# Altium schematic symbol library EasyPCB.SchLib: 70 symbols
Pins are listed as number, name and electrical type; pins without a type are passive.

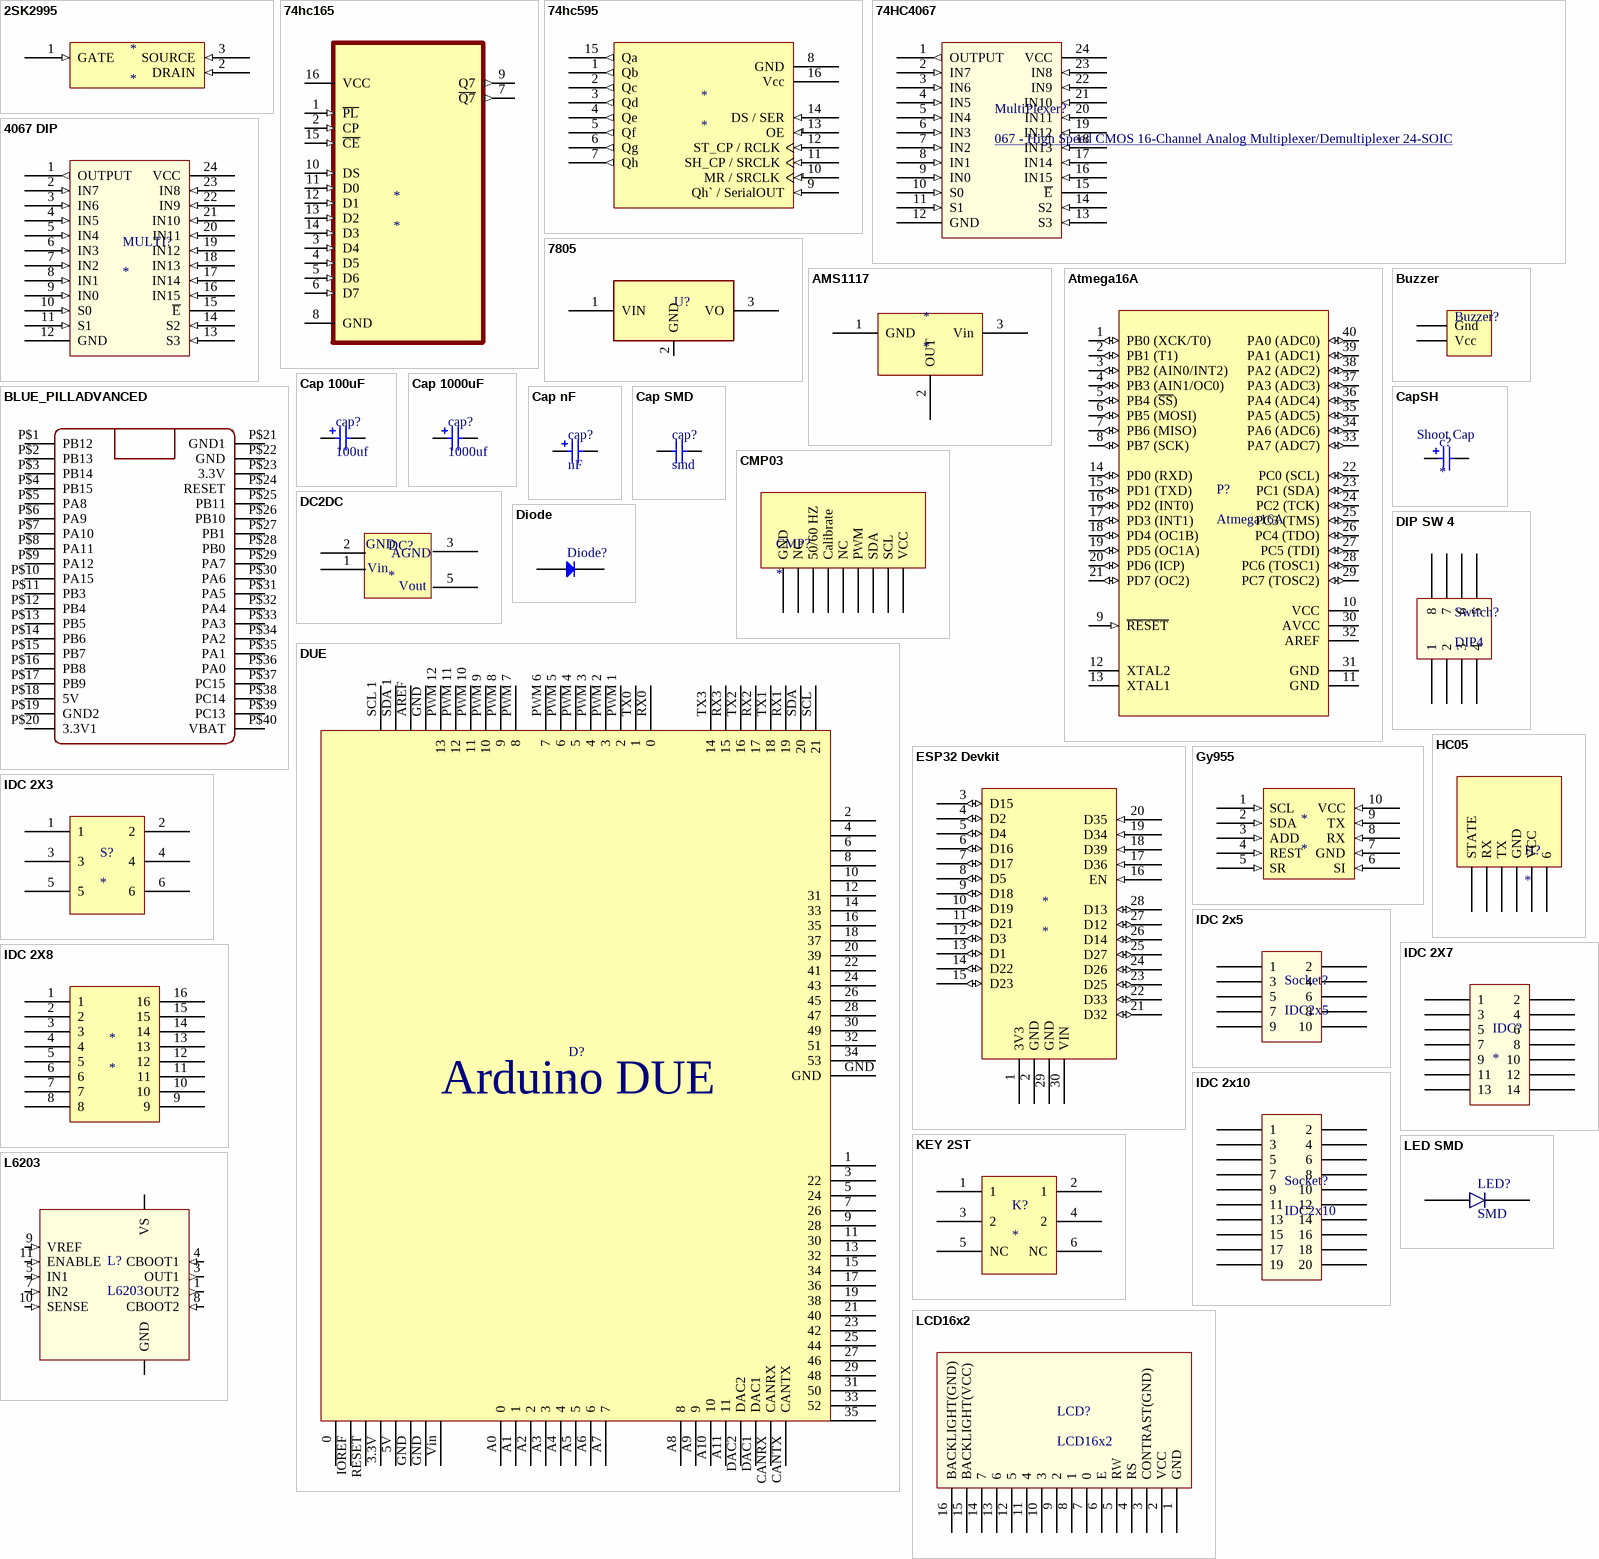
[diagram p0: symbols 2SK2995 to LED SMD]

## 2SK2995
designator *
footprint 3 PIn - 5.25
pins: 1 GATE (in), 2 DRAIN (in), 3 SOURCE (in)

## 74hc165
designator *
footprint pdip16
footprint SOT109
pins: 1 ~{PL} (in), 2 CP (in), 3 D4 (in), 4 D5 (in), 5 D6 (in), 6 D7 (in), 7 ~{Q7} (out), 8 GND, 9 Q7 (out), 10 DS (in), 11 D0 (in), 12 D1 (in), 13 D2 (in), 14 D3 (in), 15 ~{CE} (in), 16 VCC (power)

## 74hc595
designator *
footprint pdip16
footprint SOT109
pins: 1 Qb (out), 2 Qc (out), 3 Qd (out), 4 Qe (out), 5 Qf (out), 6 Qg (out), 7 Qh (out), 8 GND (power), 9 Qh` / SerialOUT (in) "Serial Out", 10 MR / SRCLK (in) "Master Reclear, active low", 11 SH_CP / SRCLK (in) "Shift register clock pin", 12 ST_CP / RCLK (in) "Storage register clock pin (latch pin)", 13 OE (in) "Output enable, active low", 14 DS / SER (in) "Serial data input", 15 Qa (out), 16 Vcc (power)

## 74HC4067
designator MultiPlexer?, comment 067 - High Speed CMOS 16-Channel Analog Multiplexer/Demultiplexer 24-SOIC
By: @JavadRah; Publisher: Prim.ir
footprint SOIC24 (24-SOIC)
pins: 1 OUTPUT (out), 2 IN7 (in), 3 IN6 (in), 4 IN5 (in), 5 IN4 (in), 6 IN3 (in), 7 IN2 (in), 8 IN1 (in), 9 IN0 (in), 10 S0 (in), 11 S1 (in), 12 GND (power), 13 S3 (in), 14 S2 (in), 15 ~{E}, 16 IN15 (in), 17 IN14 (in), 18 IN13 (in), 19 IN12 (in), 20 IN11 (in), 21 IN10 (in), 22 IN9 (in), 23 IN8 (in), 24 VCC (power)

## 4067 DIP
designator MULTI?
footprint 4067 DIP
pins: 1 OUTPUT (out), 2 IN7 (in), 3 IN6 (in), 4 IN5 (in), 5 IN4 (in), 6 IN3 (in), 7 IN2 (in), 8 IN1 (in), 9 IN0 (in), 10 S0 (in), 11 S1 (in), 12 GND (power), 13 S3 (in), 14 S2 (in), 15 ~{E}, 16 IN15 (in), 17 IN14 (in), 18 IN13 (in), 19 IN12 (in), 20 IN11 (in), 21 IN10 (in), 22 IN9 (in), 23 IN8 (in), 24 VCC (power)

## 7805
designator U?
REG, Linear, Fixed, 5v, 1.5A, TO-220; MANF_P#: LM78M05CT, LM7805CT, LM7805ACT, UA7805CKC, L7805ABV, L7805ACV, L7805CV, L78M05CV, KA78T05, KA7805ETU, MC78M05BT, MC78M05CT, MC7805ACT, MC7805ABT, NCP7805TG, NJM7805FA, TS7805CZ; MANF: TI, ST, FAIRCHILD, ON, NJR, TS; PARAM: 5v, 1.5A; PARAM2: PARAM2
footprint TO220_3 (TO-220 3 LEAD, TO-262, pitch: 2.54mm  10x4.5mm)
footprint TO220_3B (TO-220 3LEAD, pitch: 2.54mm  10x15mm)
footprint TO-252
pins: 1 VIN, 2 GND, 3 VO

## AMS1117
designator *
footprint SOT223
pins: 1 GND (power), 2 OUT (power), 3 Vin (power)

## Atmega16A
designator P?
footprint 40PI (Atmega16A)
pins: 1 PB0 (XCK/T0) (io), 2 PB1 (T1) (io), 3 PB2 (AIN0/INT2) (io), 4 PB3 (AIN1/OC0) (io), 5 PB4 (~{SS}) (io), 6 PB5 (MOSI) (io), 7 PB6 (MISO) (io), 8 PB7 (SCK) (io), 9 ~{RESET} (in), 10 VCC (power), 11 GND (power), 12 XTAL2, 13 XTAL1, 14 PD0 (RXD) (io), 15 PD1 (TXD) (io), 16 PD2 (INT0) (io), 17 PD3 (INT1) (io), 18 PD4 (OC1B) (io), 19 PD5 (OC1A) (io), 20 PD6 (ICP) (io), 21 PD7 (OC2) (io), 22 PC0 (SCL) (io), 23 PC1 (SDA) (io), 24 PC2 (TCK) (io), 25 PC3 (TMS) (io), 26 PC4 (TDO) (io), 27 PC5 (TDI) (io), 28 PC6 (TOSC1) (io), 29 PC7 (TOSC2) (io), 30 AVCC (power), 31 GND (power), 32 AREF, 33 PA7 (ADC7) (io), 34 PA6 (ADC6) (io), 35 PA5 (ADC5) (io), 36 PA4 (ADC4) (io), 37 PA3 (ADC3) (io), 38 PA2 (ADC2) (io), 39 PA1 (ADC1) (io), 40 PA0 (ADC0) (io)

## BLUE_PILLADVANCED
designator ?
GateName_1: G$1; SymbolName_1: BLUE_PILL; DeviceName: ADVANCED; LibraryName: BluePill; DeviceSetName: BLUE_PILL; Package: BLUE_PILL_ADV
footprint BLUE_PILL_ADV
pins: P$1 PB12, P$2 PB13, P$3 PB14, P$4 PB15, P$5 PA8, P$6 PA9, P$7 PA10, P$8 PA11, P$9 PA12, P$10 PA15, P$11 PB3, P$12 PB4, P$13 PB5, P$14 PB6, P$15 PB7, P$16 PB8, P$17 PB9, P$18 5V, P$19 GND2, P$20 3.3V1, P$21 GND1 (power), P$22 GND, P$23 3.3V, P$24 RESET, P$25 PB11, P$26 PB10, P$27 PB1, P$28 PB0, P$29 PA7, P$30 PA6, P$31 PA5, P$32 PA4, P$33 PA3, P$34 PA2, P$35 PA1, P$36 PA0, P$37 PC15, P$38 PC14, P$39 PC13, P$40 VBAT

## Buzzer
designator Buzzer?  (value not drawn)
footprint Buzzer
pins: 1 Vcc (power), 2 Gnd (power)

## Cap 100uF
designator cap?, comment 100uf
footprint Cap 100uF
pins: 1, 2

## Cap 1000uF
designator cap?, comment 1000uf
footprint Cap 1000uf
pins: 1, 2

## Cap nF
designator cap?, comment nF
footprint Cap nF
pins: 1, 2

## Cap SMD
designator cap?, comment smd
footprint Cap SMD
pins: 1, 2

## CapSH
designator c?
footprint Cap SH
footprint Cap SH
pins: 1, 2
text: Shoot Cap

## CMP03
designator CMP?
footprint CMP03
pins: 1 VCC, 2 SCL, 3 SDA, 4 PWM, 5 NC, 6 Calibrate, 7 50/60 HZ, 8 NC, 9 GND

## DC2DC
designator DC?
footprint DC2DC
pins: 1, 2, 3, 5
text: GND; AGND; Vin; Vout

## Diode
designator Diode?  (value not drawn)
footprint Diode
pins: 1 A, 2 K

## DIP SW 4
designator Switch?, comment DIP4
footprint DIP SW4
pins: 1, 2, 3, 4, 5, 6, 7, 8

## DUE
designator D?
footprint Arduino DUE
pins: 0, 1, 2, 3 22, 3.3V, 4, 5 24, 5V, 6, 7 26, 8, 9 28, 10, 11 30, 12 31, 13 32, 14 33, 15 34, 16 35, 17 36, 18 37, 19 38, 20 39, 21 40, 22 41, 23 42, 24 43, 25 44, 26 45, 27 46, 28 47, 29 48, 30 49, 31 50, 32 51, 33 52, 34 53, 35, A0 0, A1 1, A2 2, A3 3, A4 4, A5 5, A6 6, A7 7, A8 8, A9 9, A10 10, A11 11, AREF, CANRX, CANTX, DAC1, DAC2, GND, GND, GND, GND, IOREF, PWM 1 2, PWM 2 3, PWM 3 4, PWM 4 5, PWM 5 6, PWM 6 7, PWM 7 8, PWM 8 9, PWM 9 10, PWM 10 11, PWM 11 12, PWM 12 13, RESET, RX0 0, RX1 19, RX2 17, RX3 15, SCL 21, SCL 1, SDA 20, SDA 1, TX0 1, TX1 18, TX2 16, TX3 14, Vin
text: Arduino DUE

## ESP32 Devkit
designator *
footprint ESP32 Devkit
pins: 1 3V3 (power), 2 GND (power), 3 D15 (io), 4 D2 (io), 5 D4 (io), 6 D16 (io) "RX2 - IN_ PULLUP - PWM", 7 D17 (io) "TX2 - IN_PULLUP - PWM", 8 D5 (io), 9 D18 (io) "IN PULLUP - PWM", 10 D19 (io) "IN PULLUP - PWM", 11 D21 (io) "IN PULLUP - PWM", 12 D3 (io) "RX0", 13 D1 (io) "TX0", 14 D22 (io) "IN PULLUP - PWM", 15 D23 (io) "IN PULLUP - PWM", 16 EN (in), 17 D36 (in) "Vp", 18 D39 (in) "Vn", 19 D34 (in), 20 D35 (in), 21 D32 (io), 22 D33 (io), 23 D25 (io) "PWM", 24 D26 (io) "PWM", 25 D27 (io) "PWM", 26 D14 (io) "IN PULLUP", 27 D12 (io), 28 D13 (io), 29 GND (power), 30 VIN (power)

## Gy955
designator *
footprint DIP10
pins: 1 SCL (in), 2 SDA (in), 3 ADD (in), 4 REST (in), 5 SR (in), 6 SI (in), 7 GND (in), 8 RX (in), 9 TX (in), 10 VCC (in)

## HC05
designator H?
footprint HC05
pins: 1 STATE, 2 RX, 3 TX, 4 GND, 5 VCC, 6

## IDC 2X3
designator S?
footprint IDC 2X3
pins: 1, 2, 3, 4, 5, 6

## IDC 2x5
designator Socket?, comment IDC2x5
footprint IDC 2x5 (IDC 5x2)
footprint IDC 2x5 - Wire (DS1013-10P-Wire)
pins: 1, 2, 3, 4, 5, 6, 7, 8, 9, 10

## IDC 2X7
designator IDC?
footprint IDC 2X7
pins: 1, 2, 3, 4, 5, 6, 7, 8, 9, 10, 11, 12, 13, 14

## IDC 2X8
designator *
footprint IDC 2x8 (DS1013-16P)
pins: 1, 2, 3, 4, 5, 6, 7, 8, 9, 10, 11, 12, 13, 14, 15, 16

## IDC 2x10
designator Socket?, comment IDC2x10
footprint IDC 2x10
pins: 1, 2, 3, 4, 5, 6, 7, 8, 9, 10, 11, 12, 13, 14, 15, 16, 17, 18, 19, 20

## KEY 2ST
designator K?
footprint KEY 2ST
pins: 1, 2 1, 3 2, 4 2, 5 NC, 6 NC

## L6203
designator L?
footprint MultiWatt11 (L6203)
pins: 1 OUT2 (out), 2 VS (power), 3 OUT1 (out), 4 CBOOT1 (in), 5 IN1 (in), 6 GND (power), 7 IN2 (in), 8 CBOOT2 (in), 9 VREF (in), 10 SENSE (in), 11 ENABLE (in)

## LCD16x2
designator LCD?
footprint LCD 16x2 (PRIM.ir)
pins: 1 GND (power), 2 VCC (power), 3 CONTRAST(GND), 4 RS, 5 RW, 6 E, 7 0, 8 1, 9 2, 10 3, 11 4, 12 5, 13 6, 14 7, 15 BACKLIGHT(VCC) (power), 16 BACKLIGHT(GND) (power)

## LED SMD
designator LED?, comment SMD
footprint LED SMD
pins: 1, 2

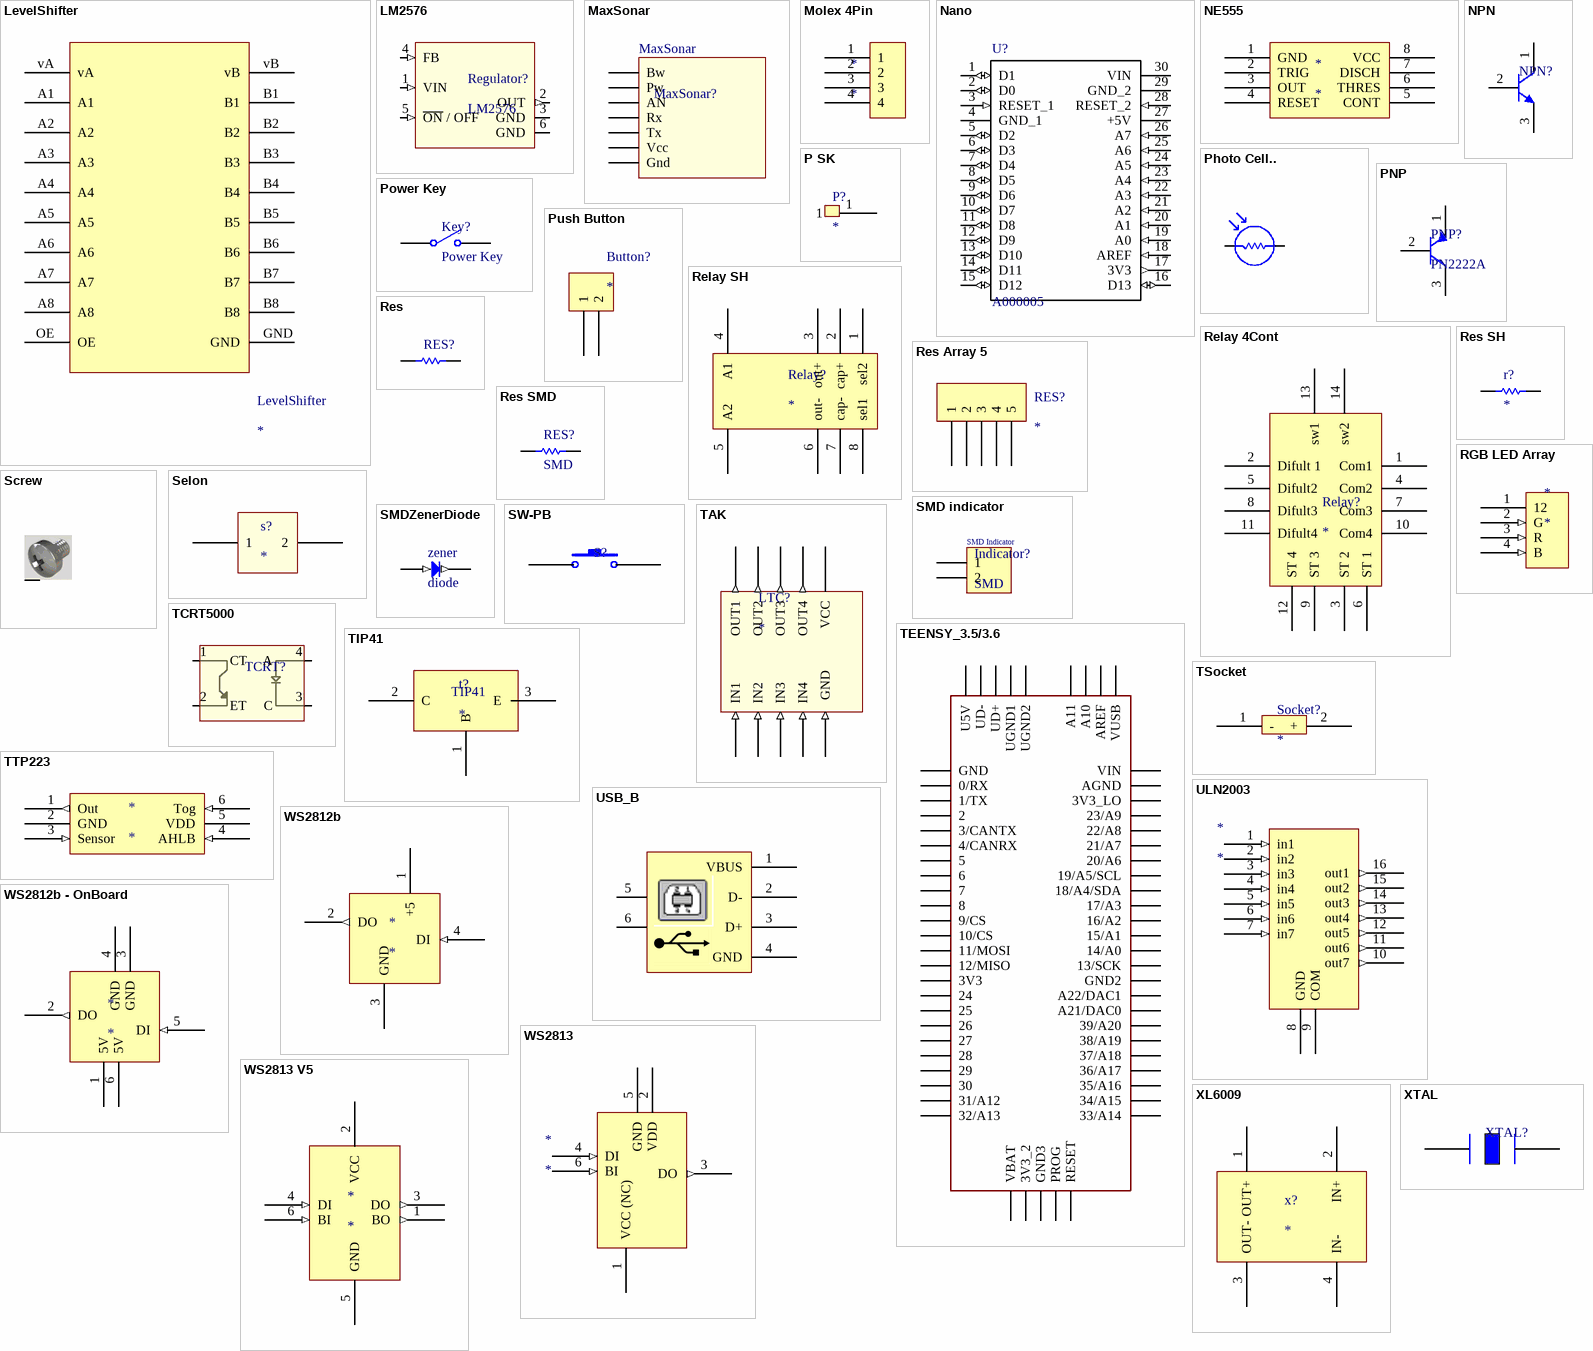
[diagram p1: symbols LevelShifter to XTAL]

## LevelShifter
designator LevelShifter
footprint CJMCU
pins: A1, A2, A3, A4, A5, A6, A7, A8, B1, B2, B3, B4, B5, B6, B7, B8, GND, OE, vA, vB

## LM2576
designator Regulator?
footprint D2PAK (LM2576)
pins: 1 VIN (in), 2 OUT (out), 3 GND (power), 4 FB (in), 5 ~{ON} / OFF (in), 6 GND (power)

## MaxSonar
designator MaxSonar?, comment Ultrasonic  (value not drawn)
footprint MaxSonar (HighPerformance UltraSonic Range Finder)
pins: 1 Bw, 2 Pw, 3 AN, 4 Rx, 5 Tx, 6 Vcc, 7 Gnd

## Molex 4Pin
designator *
footprint Molex 4Pin
pins: 1, 2, 3, 4

## Nano
designator U?, comment A000005
MICRO, ARDUINO NANO 3.0, MINI-B USB, ATmega328, 0.1DIP, ICSP HDR; MP: A000005; Package: None; Availability: Unavailable; Price: None; SnapEDA_Link: https://www.snapeda.com/parts/A000005/Arduino/view-part/?ref=snap; MF: Arduino; Value: *
footprint ARDUINO_A000005
pins: 1 D1 (io), 2 D0 (io), 3 RESET_1 (in), 4 GND_1 (power), 5 D2 (io), 6 D3 (io), 7 D4 (io), 8 D5 (io), 9 D6 (io), 10 D7 (io), 11 D8 (io), 12 D9 (io), 13 D10 (io), 14 D11 (io), 15 D12 (io), 16 D13 (io), 17 3V3 (out), 18 AREF (in), 19 A0 (in), 20 A1 (in), 21 A2 (in), 22 A3 (in), 23 A4 (in), 24 A5 (in), 25 A6 (in), 26 A7 (in), 27 +5V (power), 28 RESET_2 (in), 29 GND_2 (power), 30 VIN (power)

## NE555
designator *
footprint SOIC8
footprint PDIP8
pins: 1 GND, 2 TRIG, 3 OUT, 4 RESET, 5 CONT, 6 THRES, 7 DISCH, 8 VCC

## NPN
designator NPN?, comment N2222A  (value not drawn)
footprint SOT23-3
footprint TO18
pins: 1 C, 2 B, 3 E

## P SK
designator P?
footprint P SK
pins: 1

## Photo Cell..
designator Photo Cell?, comment Photo Cell  (value not drawn)
LatestRevisionDate: 17-Jul-2002; LatestRevisionNote: Re-released for DXP Platform.; Publisher: Altium Limited
footprint PhotoCell.
pins: 1, 2

## PNP
designator PNP?, comment PN2222A
footprint PNP (PN2222A)
pins: 1 C, 2 B, 3 E

## Power Key
designator Key?
footprint Power Key
pins: 1 COMMON, 2 NO

## Push Button
designator Button?
footprint Push Button
pins: 1, 2

## Relay 4Cont
designator Relay?
footprint Relay 4 Cont
pins: 1 Com1, 2 Difult 1, 3 ST 2, 4 Com2, 5 Difult2, 6 ST 1, 7 Com3, 8 Difult3, 9 ST 3, 10 Com4, 11 Difult4, 12 ST 4, 13 sw1, 14 sw2

## Relay SH
designator Relay?
footprint relay
footprint Relay SH
pins: 1 sel2, 2 cap+, 3 out+, 4 A1, 5 A2, 6 out-, 7 cap-, 8 sel1

## Res
designator RES?, comment DIP  (value not drawn)
footprint Resistor (DIP 2)
pins: 1, 2

## Res Array 5
designator RES?
footprint Res Array 5
pins: 1, 2, 3, 4, 5

## Res SH
designator r?
footprint Res SH
pins: 1, 2

## Res SMD
designator RES?, comment SMD
footprint Resistor SMD 1206
pins: 1, 2

## RGB LED Array
designator *
footprint LED RGB 5050 - 30 (5cm)
pins: 1 12 (power), 2 G (in), 3 R (in), 4 B (in)

## Screw
designator Screw?  (value not drawn)
LatestRevisionDate: 17-Jul-2002; LatestRevisionNote: Re-released for DXP Platform.; Publisher: Altium Limited
footprint Screw
pins: S

## Selon
designator s?
footprint Selon Con
pins: 1, 2

## SMD indicator
designator Indicator?, comment SMD
footprint 1828 (for SMD Indicator)
pins: 1 2 (power), 2 1 (power)
text: SMD Indicator

## SMDZenerDiode
designator zener, comment diode
footprint LED SMD
pins: 1 in (in), 2 out (out)

## SW-PB
designator S?
Switch; Published: 24-Mar-1999; LatestRevisionDate: 17-Jul-2002; LatestRevisionNote: Re-released for DXP Platform.; PackageReference: SPST-2; Publisher: Altium Limited; PackageDescription: Switch; 2 Leads
footprint SW_2pin
pins: 1, 2

## TAK
designator LTC?
footprint TAK
pins: 1 VCC (power), 2 OUT4 (out), 3 OUT3 (out), 4 OUT2 (out), 5 OUT1 (out), 6 IN1 (in), 7 IN2 (in), 8 IN3 (in), 9 IN4 (in), 10  GND (in)

## TCRT5000
designator TCRT?  (value not drawn)
footprint TCRT5000
pins: 1 CT, 2 ET, 3 C, 4 A

## TEENSY_3.5/3.6
designator ?
GateName_1: G$1; SymbolName_1: TEENSY_3.5/3.6; LibraryName: Teensy356; DeviceSetName: TEENSY_3.5/3.6; Package: TEENSY_3.5/3.6
footprint TEENSY_3.5/3.6
pins: 0/RX, 1/TX, 2, 3/CANTX, 3V3, 3V3_2, 3V3_LO, 4/CANRX, 5, 6, 7, 8, 9/CS, 10/CS, 11/MOSI, 12/MISO, 13/SCK, 14/A0, 15/A1, 16/A2, 17/A3, 18/A4/SDA, 19/A5/SCL, 20/A6, 21/A7, 21/DAC0 A21/DAC0, 22/A8, 23/A9, 24, 25, 26, 27, 28, 29, 30, 31/A12, 32/A13, 33/A14, 34/A15, 35/A16, 36/A17, 37/A18, 38/A19, 39/A20, A10, A11, A22/DAC1, AGND, AREF, GND, GND2, GND3, PROG, RESET, U5V, UD+, UD-, UGND1, UGND2, VBAT, VIN, VUSB

## TIP41
designator t?
footprint TIP41
pins: 1 B, 2 C, 3 E

## TSocket
designator Socket?
footprint TSocket
pins: 1 -, 2 +

## TTP223
designator *
footprint SOT23-6
pins: 1 Out (out), 2 GND (power), 3 Sensor (in), 4 AHLB (in), 5 VDD (power), 6 Tog (in) "1-Toglle 0-Direct"

## ULN2003
designator *
footprint pdip16
footprint SOT109
pins: 1 in1 (in), 2 in2 (in), 3 in3 (in), 4 in4 (in), 5 in5 (in), 6 in6 (in), 7 in7 (in), 8 GND (power), 9 COM (power), 10 out7 (out), 11 out6 (out), 12 out5 (out), 13 out4 (out), 14 out3 (out), 15 out2 (out), 16 out1 (out)

## USB_B
designator USB B?  (value not drawn)
USB B; LatestRevisionDate: 17-Jul-2002; LatestRevisionNote: Re-released for DXP Platform.; Publisher: Altium Limited
footprint USB_B.1
footprint USB_B.2
pins: 1 VBUS (power), 2 D-, 3 D+, 4 GND (power), 5, 6

## WS2812b
designator *
footprint LED 5050 4PIN
pins: 1 +5 (power), 2 DO (out), 3 GND (power), 4 DI (in)

## WS2812b - OnBoard
designator *
footprint WS2812b - OnBoard
pins: 1 5V (power), 2 DO (out), 3 GND (power), 4 GND (power), 5 DI (in), 6 5V (power)

## WS2813
designator *
footprint LED 5050 6PIN
pins: 1 VCC (NC) (power), 2 VDD (power), 3 DO (out), 4 DI (in), 5 GND (power), 6 BI (in)

## WS2813 V5
designator *
footprint LED 5050 6PIN
pins: 1 BO (out), 2 VCC (power), 3 DO (out), 4 DI (in), 5 GND (power), 6 BI (in)

## XL6009
designator x?
footprint XL6009
footprint XL6009
pins: 1 OUT+, 2 IN+, 3 OUT-, 4 IN-

## XTAL
designator XTAL?, comment Crystal  (value not drawn)
footprint XTAL (FOR ATmega16)
pins: 1, 2